# Altium schematic symbol library MCP1416T-E_OT.SCHLIB: 1 symbol
Pins are listed as number, name and electrical type; pins without a type are passive.

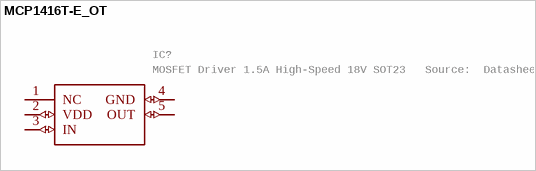
[diagram p0: symbol MCP1416T-E_OT]

## MCP1416T-E_OT
designator IC?, comment MOSFET Driver 1.5A High-Speed 18V SOT23   Source:  Datasheet
Manufacturer_Name: Microchip; Manufacturer_Part_Number: MCP1416T-E/OT; GateName_1: G$1; SymbolName_1: MCP1416T-E_OT; LibraryName: MCP1416T-E_OT; DeviceSetName: MCP1416T-E_OT; Package: SOT95P270X145-5N; Mouser_Part_Number: 579-MCP1416T-E/OT; Mouser_Price-Stock: https://www.mouser.co.uk/ProductDetail/Microchip-Technology/MCP1416T-E-OT?qs=hH%252BOa0VZEiBT%252BgAjATFU6A%3D%3D; Arrow_Part_Number: MCP1416T-E/OT; Arrow_Price-Stock: https://www.arrow.com/en/products/mcp1416t-eot/microchip-technology; Description: MOSFET Driver 1.5A High-Speed 18V SOT23; Height: 1.45mm
footprint SOT95P270X145-5N
pins: 1 NC, 2 VDD (io), 3 IN (io), 4 GND (io), 5 OUT (io)